# EAGLE library part OPAMP (library EnviroTron)
IC OPAMP General Purpose Amplifier Circuit Rail-to-Rail
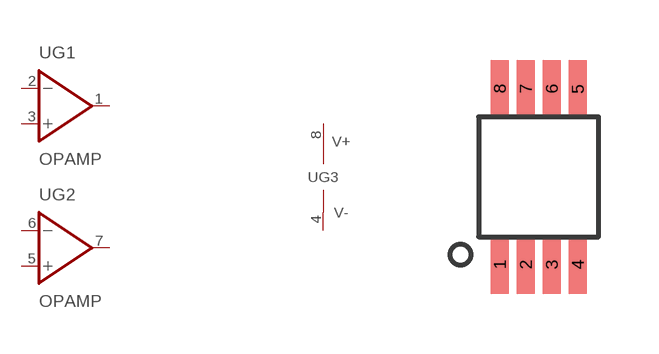
[diagram p1: symbol with the pads of MSOP-8; footprint MSOP-8]

Designator prefix -; gates G1=OPAMP G2=OPAMP G3=V+/V-

## OPAMP-MCP6002-MSOP8 (MFG: Microchip Technologies Inc.; MPN: MCP6002T-I/MS; PN-DK: MCP6002T-I/MSCT-ND), OPAMP-OPA2376-MSOP8 (MFG: Texas Instruments; MPN: OPA2376AIDGKR; PN-DK: 296-22630-1-ND)  [MSOP-8]
1  G1:OUT  out
2  G1:-IN  in
3  G1:+IN  in
4  G3:V-  pwr
5  G2:+IN  in
6  G2:-IN  in
7  G2:OUT  out
8  G3:V+  pwr

## Footprint MSOP-8 (pad centres in mm)
smd 0.45 x 1.45: 1 -0.975,-2.2; 2 -0.325,-2.2; 3 0.325,-2.2; 4 0.975,-2.2; 5 0.975,2.2; 6 0.325,2.2; 7 -0.325,2.2; 8 -0.975,2.2